# Altium integrated library STM32F750N8H6.IntLib: 2 symbols
Pins are listed as number, name and electrical type; pins without a type are passive.

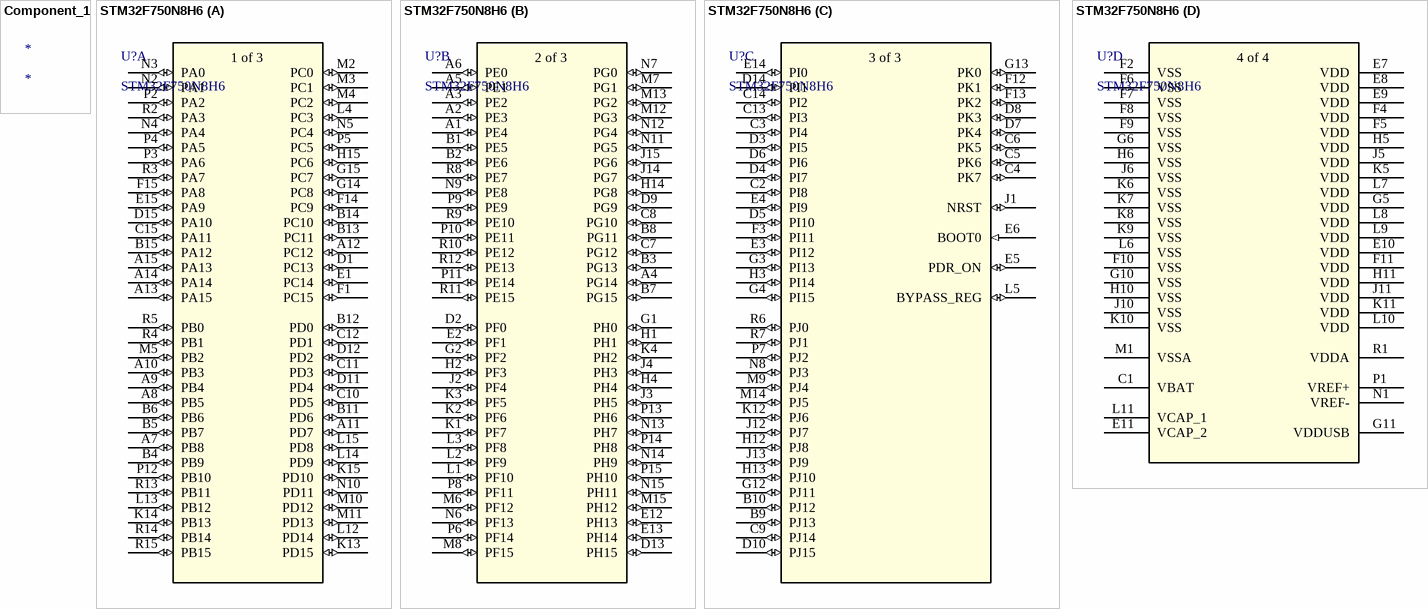
[diagram p0: symbols Component_1 to STM32F750N8H6]

## Component_1
designator *

## STM32F750N8H6
designator U?
No Description Available; Built_By: EMA_Jessica; Vendor: STMicroelectronics; SourceLibrary: Add_to_database_2020-10-19; Copyright: Copyright (C) 2018 Accelerated Designs. All rights reserved; Manufacturer_Part_Number: STM32F750N8H6; RefDes: RefDes; Type: DEV
footprint TFBGA216_13X13_STM
part A pins: A7 PB8 (io), A8 PB5 (io), A9 PB4 (io), A10 PB3 (io), A11 PD7 (io), A12 PC12 (io), A13 PA15 (io), A14 PA14 (io), A15 PA13 (io), B4 PB9 (io), B5 PB7 (io), B6 PB6 (io), B11 PD6 (io), B12 PD0 (io), B13 PC11 (io), B14 PC10 (io), B15 PA12 (io), C10 PD5 (io), C11 PD3 (io), C12 PD1 (io), C15 PA11 (io), D1 PC13 (io), D11 PD4 (io), D12 PD2 (io), D15 PA10 (io), E1 PC14 (io), E15 PA9 (io), F1 PC15 (io), F14 PC9 (io), F15 PA8 (io), G14 PC8 (io), G15 PC7 (io), H15 PC6 (io), K13 PD15 (io), K14 PB13 (io), K15 PD10 (io), L4 PC3 (io), L12 PD14 (io), L13 PB12 (io), L14 PD9 (io), L15 PD8 (io), M2 PC0 (io), M3 PC1 (io), M4 PC2 (io), M5 PB2 (io), M10 PD12 (io), M11 PD13 (io), N2 PA1 (io), N3 PA0 (io), N4 PA4 (io), N5 PC4 (io), N10 PD11 (io), P2 PA2 (io), P3 PA6 (io), P4 PA5 (io), P5 PC5 (io), P12 PB10 (io), R2 PA3 (io), R3 PA7 (io), R4 PB1 (io), R5 PB0 (io), R13 PB11 (io), R14 PB14 (io), R15 PB15 (io)
part B pins: A1 PE4 (io), A2 PE3 (io), A3 PE2 (io), A4 PG14 (io), A5 PE1 (io), A6 PE0 (io), B1 PE5 (io), B2 PE6 (io), B3 PG13 (io), B7 PG15 (io), B8 PG11 (io), C7 PG12 (io), C8 PG10 (io), D2 PF0 (io), D9 PG9 (io), D13 PH15 (io), E2 PF1 (io), E12 PH13 (io), E13 PH14 (io), G1 PH0 (io), G2 PF2 (io), H1 PH1 (io), H2 PF3 (io), H4 PH4 (io), H14 PG8 (io), J2 PF4 (io), J3 PH5 (io), J4 PH3 (io), J14 PG7 (io), J15 PG6 (io), K1 PF7 (io), K2 PF6 (io), K3 PF5 (io), K4 PH2 (io), L1 PF10 (io), L2 PF9 (io), L3 PF8 (io), M6 PF12 (io), M7 PG1 (io), M8 PF15 (io), M12 PG3 (io), M13 PG2 (io), M15 PH12 (io), N6 PF13 (io), N7 PG0 (io), N9 PE8 (io), N11 PG5 (io), N12 PG4 (io), N13 PH7 (io), N14 PH9 (io), N15 PH11 (io), P6 PF14 (io), P8 PF11 (io), P9 PE9 (io), P10 PE11 (io), P11 PE14 (io), P13 PH6 (io), P14 PH8 (io), P15 PH10 (io), R8 PE7 (io), R9 PE10 (io), R10 PE12 (io), R11 PE15 (io), R12 PE13 (io)
part C pins: B9 PJ13 (io), B10 PJ12 (io), C2 PI8 (io), C3 PI4 (io), C4 PK7 (io), C5 PK6 (io), C6 PK5 (io), C9 PJ14 (io), C13 PI3 (io), C14 PI2 (io), D3 PI5 (io), D4 PI7 (io), D5 PI10 (io), D6 PI6 (io), D7 PK4 (io), D8 PK3 (io), D10 PJ15 (io), D14 PI1 (io), E3 PI12 (io), E4 PI9 (io), E5 PDR_ON (io), E6 BOOT0 (in), E14 PI0 (io), F3 PI11 (io), F12 PK1 (io), F13 PK2 (io), G3 PI13 (io), G4 PI15 (io), G12 PJ11 (io), G13 PK0 (io), H3 PI14 (io), H12 PJ8 (io), H13 PJ10 (io), J1 NRST (io), J12 PJ7 (io), J13 PJ9 (io), K12 PJ6 (io), L5 BYPASS_REG (io), M9 PJ4 (io), M14 PJ5 (io), N8 PJ3 (io), P7 PJ2 (io), R6 PJ0 (io), R7 PJ1 (io)
part D pins: C1 VBAT (power), E7 VDD (power), E8 VDD (power), E9 VDD (power), E10 VDD (power), E11 VCAP_2 (power), F2 VSS (power), F4 VDD (power), F5 VDD (power), F6 VSS (power), F7 VSS (power), F8 VSS (power), F9 VSS (power), F10 VSS (power), F11 VDD (power), G5 VDD (power), G6 VSS (power), G10 VSS (power), G11 VDDUSB (power), H5 VDD (power), H6 VSS (power), H10 VSS (power), H11 VDD (power), J5 VDD (power), J6 VSS (power), J10 VSS (power), J11 VDD (power), K5 VDD (power), K6 VSS (power), K7 VSS (power), K8 VSS (power), K9 VSS (power), K10 VSS (power), K11 VDD (power), L6 VSS (power), L7 VDD (power), L8 VDD (power), L9 VDD (power), L10 VDD (power), L11 VCAP_1 (power), M1 VSSA (power), N1 VREF- (power), P1 VREF+ (power), R1 VDDA (power)
part A text: 1 of 3
part B text: 2 of 3
part C text: 3 of 3
part D text: 4 of 4